# Altium schematic symbol library Sheye-Resistor.SchLib: 584 symbols (part 1 of 3)
Pins are listed as number, name and electrical type; pins without a type are passive.

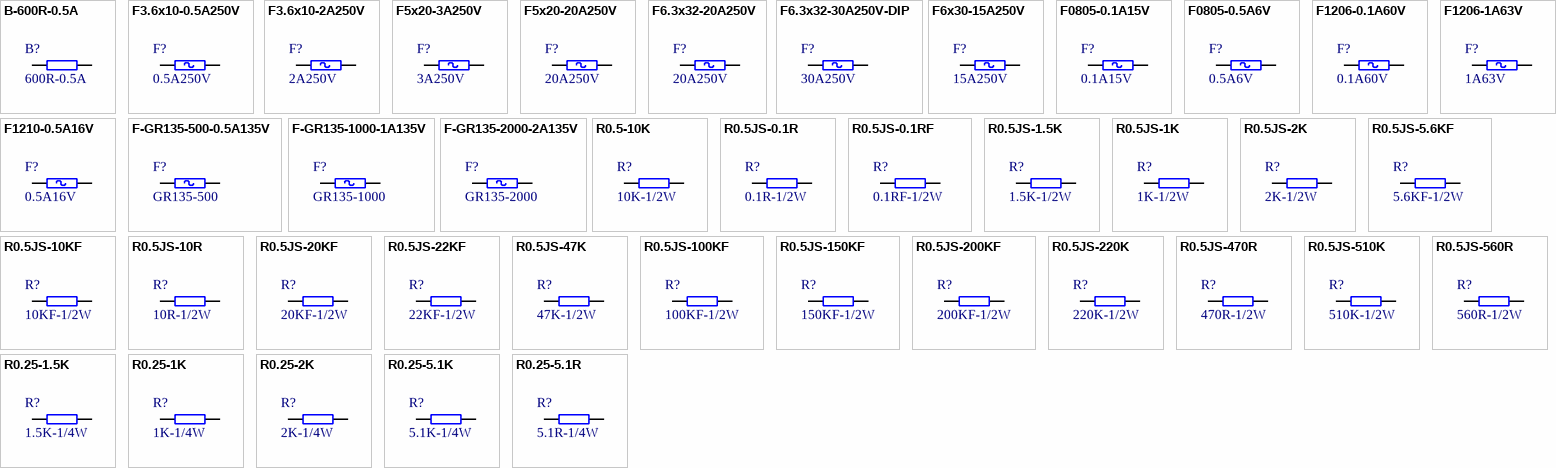
[diagram p0: symbols B-600R-0.5A to R0.25-5.1R]

## B-600R-0.5A
designator B?, comment 600R-0.5A
贴片磁珠; 生产商: TDK; 规格型号: MMZ2012Y601A_600R@100MHz 25%_DC0.2R; 备注: *; 供应商: *; 货品编码: *
footprint B0805 (chip bead)
footprint B0805
pins: 1, 2

## F3.6x10-0.5A250V
designator F?, comment 0.5A250V
插件保险丝; 规格型号: F3.6x10-0.5A250V; 货品编码: 381008; 备注: *; 供应商: *
footprint F-3.6x10-V (Footprint not found)
footprint F-3.6x10-H (Footprint not found)
pins: 1, 2

## F3.6x10-2A250V
designator F?, comment 2A250V
插件保险丝; 规格型号: F3.6x10-2A250V; 货品编码: 381004; 备注: *; 供应商: *
footprint F-3.6x10-V (Footprint not found)
footprint F-3.6x10-H (Footprint not found)
pins: 1, 2

## F5x20-3A250V
designator F?, comment 3A250V
插件保险丝; 规格型号: F5x20-3A250V; 货品编码: 381007; 备注: *; 供应商: *
footprint F-5x20-V (Footprint not found)
footprint F-5x20-H (Footprint not found)
pins: 1, 2

## F5x20-20A250V
designator F?, comment 20A250V
插件保险丝; 规格型号: F5x20-20A250V; 货品编码: 无样品无编码; 备注: *; 供应商: *
footprint F-5x20-V (Footprint not found)
footprint F-5x20-H (Footprint not found)
pins: 1, 2

## F6.3x32-20A250V
designator F?, comment 20A250V
插件保险丝; 规格型号: F6.3x32-20A250V; 货品编码: 381019; 备注: *; 供应商: *
footprint F-6.3x32
pins: 1, 2

## F6.3x32-30A250V-DIP
designator F?, comment 30A250V
插件保险丝; 生产商: 安秒; 规格型号: F6.3x32-30A250V陶瓷 快断 带引线; 货品编码: 381010; 备注: *; 供应商: *
footprint F-6.3x32-H
pins: 1, 2

## F6x30-15A250V
designator F?, comment 15A250V
插件保险丝; 规格型号: F6x30-15A250V; 货品编码: 无样品无编码; 备注: *; 供应商: *
footprint F-6x30
pins: 1, 2

## F0805-0.1A15V
designator F?, comment 0.1A15V
贴片保险丝; 规格型号: F0805-0.1A15V; 货品编码: 381002; 备注: *; 供应商: *
footprint F0805 (Footprint not found)
pins: 1, 2

## F0805-0.5A6V
designator F?, comment 0.5A6V
贴片保险丝; 规格型号: F0805-0.5A6V; 货品编码: 381003; 备注: *; 供应商: *
footprint F0805 (Footprint not found)
pins: 1, 2

## F1206-0.1A60V
designator F?, comment 0.1A60V
贴片保险丝; 规格型号: F1206-0.1A60V 贴片式自恢复保险; 货品编码: 381014; 备注: *; 供应商: *
footprint F1206
pins: 1, 2

## F1206-1A63V
designator F?, comment 1A63V
贴片保险丝; 规格型号: F1206-1A63V; 货品编码: 381001; 备注: *; 供应商: *
footprint F1206
pins: 1, 2

## F1210-0.5A16V
designator F?, comment 0.5A16V
贴片保险丝; 生产商: 硕凯电子(型号SCF050-1210); 规格型号: F1210-0.5A16V; 备注: 贴片自恢复保险丝; 货品编码: 无样品无编码; 供应商: *
footprint F1210 (贴片自恢复保险)
pins: 1, 2

## F-GR135-500-0.5A135V
designator F?, comment GR135-500
插件保险丝; 规格型号: GR135-500-0.5A135V; 货品编码: 381021; 备注: *; 供应商: *
footprint F-GR135-500 (Footprint not found)
footprint F-3.6x10-H (Footprint not found)
pins: 1, 2

## F-GR135-1000-1A135V
designator F?, comment GR135-1000
插件保险丝; 规格型号: GR135-1000-1A135V 自恢复保险丝; 货品编码: 381081; 备注: *; 供应商: *
footprint F-GR135-1000 (Footprint not found)
footprint F-3.6x10-H (Footprint not found)
pins: 1, 2

## F-GR135-2000-2A135V
designator F?, comment GR135-2000
插件保险丝; 规格型号: GR135-2000-2A135V; 货品编码: 381020; 备注: *; 供应商: *
footprint F-GR135-2000 (Footprint not found)
footprint F-3.6x10-H (Footprint not found)
pins: 1, 2

## R0.5-10K
designator R?, comment 10K-1/2W
插件电阻-碳膜; 生产商: 厚声 国巨; 规格型号: 10K±5%_1/2W_±100ppm_AXIAL0.5; 货品编码: 无样品无编码; 备注: *; 供应商: *
footprint R-AXIAL0.5 (Footprint not found)
footprint R-AXIAL0.5V1 (Footprint not found)
pins: 1, 2

## R0.5JS-0.1R
designator R?, comment 0.1R-1/2W
插件电阻-金膜; 生产商: 厚声 国巨; 规格型号: 0.1R±5%_1/2W_±100ppm_AXIAL0.5; 货品编码: 312111; 备注: *; 供应商: *
footprint R-AXIAL0.5 (Footprint not found)
footprint R-AXIAL0.5V1 (Footprint not found)
pins: 1, 2

## R0.5JS-0.1RF
designator R?, comment 0.1RF-1/2W
插件电阻-金膜; 生产商: 厚声 国巨; 规格型号: 0.1R±1%_1/2W_±100ppm_AXIAL0.5; 货品编码: 312144; 备注: *; 供应商: *
footprint R-AXIAL0.5 (Footprint not found)
footprint R-AXIAL0.5V1 (Footprint not found)
pins: 1, 2

## R0.5JS-1.5K
designator R?, comment 1.5K-1/2W
插件电阻-金膜; 生产商: 厚声 国巨; 规格型号: 1.5K±5%_1/2W_±100ppm_AXIAL0.5; 货品编码: 312031; 备注: *; 供应商: *
footprint R-AXIAL0.5 (Footprint not found)
footprint R-AXIAL0.5V1 (Footprint not found)
pins: 1, 2

## R0.5JS-1K
designator R?, comment 1K-1/2W
插件电阻-金膜; 生产商: 厚声 国巨; 规格型号: 1K±5%_1/2W_±100ppm_AXIAL0.5; 货品编码: 312030; 备注: *; 供应商: *
footprint R-AXIAL0.5 (Footprint not found)
footprint R-AXIAL0.5V1 (Footprint not found)
pins: 1, 2

## R0.5JS-2K
designator R?, comment 2K-1/2W
插件电阻-金膜; 生产商: 厚声 国巨; 规格型号: 2K±5%_1/2W_±100ppm_AXIAL0.5; 货品编码: 312032; 备注: *; 供应商: *
footprint R-AXIAL0.5 (Footprint not found)
footprint R-AXIAL0.5V1 (Footprint not found)
pins: 1, 2

## R0.5JS-5.6KF
designator R?, comment 5.6KF-1/2W
插件电阻-金膜; 生产商: 厚声 国巨; 规格型号: 5.6K±1%_1/2W_±100ppm_AXIAL0.5; 货品编码: 312056; 备注: *; 供应商: *
footprint R-AXIAL0.5 (Footprint not found)
footprint R-AXIAL0.5V1 (Footprint not found)
pins: 1, 2

## R0.5JS-10KF
designator R?, comment 10KF-1/2W
插件电阻-金膜; 生产商: 厚声 国巨; 规格型号: 10K±1%_1/2W_±100ppm_AXIAL0.5; 货品编码: 312112; 备注: *; 供应商: *
footprint R-AXIAL0.5 (Footprint not found)
footprint R-AXIAL0.5V1 (Footprint not found)
pins: 1, 2

## R0.5JS-10R
designator R?, comment 10R-1/2W
插件电阻-金膜; 生产商: 厚声 国巨; 规格型号: 10R±5%_1/2W_±100ppm_AXIAL0.5; 货品编码: 312040; 备注: *; 供应商: *
footprint R-AXIAL0.5 (Footprint not found)
footprint R-AXIAL0.5V1 (Footprint not found)
pins: 1, 2

## R0.5JS-20KF
designator R?, comment 20KF-1/2W
插件电阻-金膜; 生产商: 厚声 国巨; 规格型号: 20K±1%_1/2W_±100ppm_AXIAL0.5; 货品编码: 312037; 备注: *; 供应商: *
footprint R-AXIAL0.5 (Footprint not found)
footprint R-AXIAL0.5V1 (Footprint not found)
pins: 1, 2

## R0.5JS-22KF
designator R?, comment 22KF-1/2W
插件电阻-金膜; 生产商: 厚声 国巨; 规格型号: 22K±1%_1/2W_±100ppm_AXIAL0.5; 货品编码: 312062; 备注: *; 供应商: *
footprint R-AXIAL0.5 (Footprint not found)
footprint R-AXIAL0.5V1 (Footprint not found)
pins: 1, 2

## R0.5JS-47K
designator R?, comment 47K-1/2W
插件电阻-金膜; 生产商: 厚声 国巨; 规格型号: 47K±5%_1/2W_±100ppm_AXIAL0.5; 货品编码: 312122; 备注: *; 供应商: *
footprint R-AXIAL0.5 (Footprint not found)
footprint R-AXIAL0.5V1 (Footprint not found)
pins: 1, 2

## R0.5JS-100KF
designator R?, comment 100KF-1/2W
插件电阻-金膜; 生产商: 厚声 国巨; 规格型号: 100K±1%_1/2W_±100ppm_AXIAL0.5; 货品编码: 312113; 备注: *; 供应商: *
footprint R-AXIAL0.5 (Footprint not found)
footprint R-AXIAL0.5V1 (Footprint not found)
pins: 1, 2

## R0.5JS-150KF
designator R?, comment 150KF-1/2W
插件电阻-金膜; 生产商: 厚声 国巨; 规格型号: 150K±1%_1/2W_±100ppm_AXIAL0.5; 货品编码: 312114; 备注: *; 供应商: *
footprint R-AXIAL0.5 (Footprint not found)
footprint R-AXIAL0.5V1 (Footprint not found)
pins: 1, 2

## R0.5JS-200KF
designator R?, comment 200KF-1/2W
插件电阻-金膜; 生产商: 厚声 国巨; 规格型号: 200K±1%_1/2W_±100ppm_AXIAL0.5; 货品编码: 312115; 备注: *; 供应商: *
footprint R-AXIAL0.5 (Footprint not found)
footprint R-AXIAL0.5V1 (Footprint not found)
pins: 1, 2

## R0.5JS-220K
designator R?, comment 220K-1/2W
插件电阻-金膜; 生产商: 厚声 国巨; 规格型号: 220K±5%_1/2W_±100ppm_AXIAL0.5; 货品编码: 312035; 备注: *; 供应商: *
footprint R-AXIAL0.5 (Footprint not found)
footprint R-AXIAL0.5V1 (Footprint not found)
pins: 1, 2

## R0.5JS-470R
designator R?, comment 470R-1/2W
插件电阻-金膜; 生产商: 厚声 国巨; 规格型号: 470R±5%_1/2W_±100ppm_AXIAL0.5; 货品编码: 312041; 备注: *; 供应商: *
footprint R-AXIAL0.5 (Footprint not found)
footprint R-AXIAL0.5V1 (Footprint not found)
pins: 1, 2

## R0.5JS-510K
designator R?, comment 510K-1/2W
插件电阻-金膜; 生产商: 厚声 国巨; 规格型号: 510K±5%_1/2W_±100ppm_AXIAL0.5; 货品编码: 312038; 备注: *; 供应商: *
footprint R-AXIAL0.5 (Footprint not found)
footprint R-AXIAL0.5V1 (Footprint not found)
pins: 1, 2

## R0.5JS-560R
designator R?, comment 560R-1/2W
插件电阻-金膜; 生产商: 厚声 国巨; 规格型号: 560R±5%_1/2W_±100ppm_AXIAL0.5; 货品编码: 312042; 备注: *; 供应商: *
footprint R-AXIAL0.5 (Footprint not found)
footprint R-AXIAL0.5V1 (Footprint not found)
pins: 1, 2

## R0.25-1.5K
designator R?, comment 1.5K-1/4W
插件电阻-碳膜; 生产商: 厚声 国巨; 规格型号: 1.5K±5%_1/4W_±100ppm_AXIAL0.4; 货品编码: 312015; 备注: *; 供应商: *
footprint R-AXIAL0.4 (Footprint not found)
footprint R-AXIAL0.4V1 (Footprint not found)
pins: 1, 2

## R0.25-1K
designator R?, comment 1K-1/4W
插件电阻-碳膜; 生产商: 厚声 国巨; 规格型号: 1K±5%_1/4W_±100ppm_AXIAL0.4; 货品编码: 312014; 备注: *; 供应商: *
footprint R-AXIAL0.4 (Footprint not found)
footprint R-AXIAL0.4V1 (Footprint not found)
pins: 1, 2

## R0.25-2K
designator R?, comment 2K-1/4W
插件电阻-碳膜; 生产商: 厚声 国巨; 规格型号: 2K±5%_1/4W_±100ppm_AXIAL0.4; 货品编码: 312153; 备注: *; 供应商: *
footprint R-AXIAL0.4 (Footprint not found)
footprint R-AXIAL0.4V1 (Footprint not found)
pins: 1, 2

## R0.25-5.1K
designator R?, comment 5.1K-1/4W
插件电阻-碳膜; 生产商: 厚声 国巨; 规格型号: 5.1K±5%_1/4W_±100ppm_AXIAL0.4; 货品编码: 312018; 备注: *; 供应商: *
footprint R-AXIAL0.4 (Footprint not found)
footprint R-AXIAL0.4V1 (Footprint not found)
pins: 1, 2

## R0.25-5.1R
designator R?, comment 5.1R-1/4W
插件电阻-碳膜; 生产商: 厚声 国巨; 规格型号: 5.1R±5%_1/4W_±100ppm_AXIAL0.4; 货品编码: 312150; 备注: *; 供应商: *
footprint R-AXIAL0.4 (Footprint not found)
footprint R-AXIAL0.4V1 (Footprint not found)
pins: 1, 2

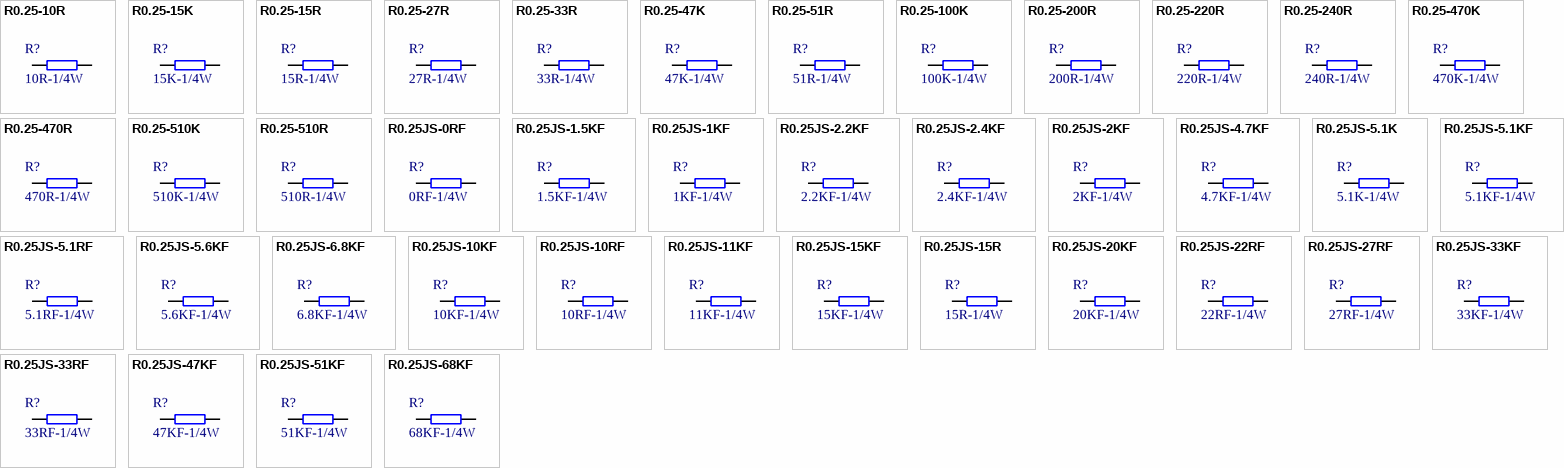
[diagram p1: symbols R0.25-10R to R0.25JS-68KF]

## R0.25-10R
designator R?, comment 10R-1/4W
插件电阻-碳膜; 生产商: 厚声 国巨; 规格型号: 10R±5%_1/4W_±100ppm_AXIAL0.4; 货品编码: 312007; 备注: *; 供应商: *
footprint R-AXIAL0.4 (Footprint not found)
footprint R-AXIAL0.4V1 (Footprint not found)
pins: 1, 2

## R0.25-15K
designator R?, comment 15K-1/4W
插件电阻-碳膜; 生产商: 厚声 国巨; 规格型号: 15K±5%_1/4W_±100ppm_AXIAL0.4; 货品编码: 312021; 备注: *; 供应商: *
footprint R-AXIAL0.4 (Footprint not found)
footprint R-AXIAL0.4V1 (Footprint not found)
pins: 1, 2

## R0.25-15R
designator R?, comment 15R-1/4W
插件电阻-碳膜; 生产商: 厚声 国巨; 规格型号: 15R±5%_1/4W_±100ppm_AXIAL0.4; 货品编码: 312151; 备注: *; 供应商: *
footprint R-AXIAL0.4 (Footprint not found)
footprint R-AXIAL0.4V1 (Footprint not found)
pins: 1, 2

## R0.25-27R
designator R?, comment 27R-1/4W
插件电阻-碳膜; 生产商: 厚声 国巨; 规格型号: 27R±5%_1/4W_±100ppm_AXIAL0.4; 货品编码: 312149; 备注: *; 供应商: *
footprint R-AXIAL0.4 (Footprint not found)
footprint R-AXIAL0.4V1 (Footprint not found)
pins: 1, 2

## R0.25-33R
designator R?, comment 33R-1/4W
插件电阻-碳膜; 生产商: 厚声 国巨; 规格型号: 33R±5%_1/4W_±100ppm_AXIAL0.4; 货品编码: 312107; 备注: *; 供应商: *
footprint R-AXIAL0.4 (Footprint not found)
footprint R-AXIAL0.4V1 (Footprint not found)
pins: 1, 2

## R0.25-47K
designator R?, comment 47K-1/4W
插件电阻-碳膜; 生产商: 厚声 国巨; 规格型号: 47K±5%_1/4W_±100ppm_AXIAL0.4; 货品编码: 312022; 备注: *; 供应商: *
footprint R-AXIAL0.4 (Footprint not found)
footprint R-AXIAL0.4V1 (Footprint not found)
pins: 1, 2

## R0.25-51R
designator R?, comment 51R-1/4W
插件电阻-碳膜; 生产商: 厚声 国巨; 规格型号: 51R±5%_1/4W_±100ppm_AXIAL0.4; 货品编码: 312152; 备注: *; 供应商: *
footprint R-AXIAL0.4 (Footprint not found)
footprint R-AXIAL0.4V1 (Footprint not found)
pins: 1, 2

## R0.25-100K
designator R?, comment 100K-1/4W
插件电阻-碳膜; 生产商: 厚声 国巨; 规格型号: 100K±5%_1/4W_±100ppm_AXIAL0.4; 货品编码: 312025; 备注: *; 供应商: *
footprint R-AXIAL0.4 (Footprint not found)
footprint R-AXIAL0.4V1 (Footprint not found)
pins: 1, 2

## R0.25-200R
designator R?, comment 200R-1/4W
插件电阻-碳膜; 生产商: 厚声 国巨; 规格型号: 200R±5%_1/4W_±100ppm_AXIAL0.4; 货品编码: 312009; 备注: *; 供应商: *
footprint R-AXIAL0.4 (Footprint not found)
footprint R-AXIAL0.4V1 (Footprint not found)
pins: 1, 2

## R0.25-220R
designator R?, comment 220R-1/4W
插件电阻-碳膜; 生产商: 厚声 国巨; 规格型号: 220R±5%_1/4W_±100ppm_AXIAL0.4; 货品编码: 无样品无编码; 备注: *; 供应商: *
footprint R-AXIAL0.4 (Footprint not found)
footprint R-AXIAL0.4V1 (Footprint not found)
pins: 1, 2

## R0.25-240R
designator R?, comment 240R-1/4W
插件电阻-碳膜; 生产商: 厚声 国巨; 规格型号: 240R±5%_1/4W_±100ppm_AXIAL0.4; 货品编码: 312011; 备注: *; 供应商: *
footprint R-AXIAL0.4 (Footprint not found)
footprint R-AXIAL0.4V1 (Footprint not found)
pins: 1, 2

## R0.25-470K
designator R?, comment 470K-1/4W
插件电阻-碳膜; 生产商: 厚声 国巨; 规格型号: 470K±5%_1/4W_±100ppm_AXIAL0.4; 货品编码: 312028; 备注: *; 供应商: *
footprint R-AXIAL0.4 (Footprint not found)
footprint R-AXIAL0.4V1 (Footprint not found)
pins: 1, 2

## R0.25-470R
designator R?, comment 470R-1/4W
插件电阻-碳膜; 生产商: 厚声 国巨; 规格型号: 470R±5%_1/4W_±100ppm_AXIAL0.4; 货品编码: 312012; 备注: *; 供应商: *
footprint R-AXIAL0.4 (Footprint not found)
footprint R-AXIAL0.4V1 (Footprint not found)
pins: 1, 2

## R0.25-510K
designator R?, comment 510K-1/4W
插件电阻-碳膜; 生产商: 厚声 国巨; 规格型号: 510K±5%_1/4W_±100ppm_AXIAL0.4; 货品编码: 312029; 备注: *; 供应商: *
footprint R-AXIAL0.4 (Footprint not found)
footprint R-AXIAL0.4V1 (Footprint not found)
pins: 1, 2

## R0.25-510R
designator R?, comment 510R-1/4W
插件电阻-碳膜; 生产商: 厚声 国巨; 规格型号: 510R±5%_1/4W_±100ppm_AXIAL0.4; 货品编码: 312013; 备注: *; 供应商: *
footprint R-AXIAL0.4 (Footprint not found)
footprint R-AXIAL0.4V1 (Footprint not found)
pins: 1, 2

## R0.25JS-0RF
designator R?, comment 0RF-1/4W
插件电阻-金膜; 生产商: 厚声 国巨; 规格型号: 0R±1%_1/4W_±100ppm_AXIAL0.4; 货品编码: 312006; 备注: *; 供应商: *
footprint R-AXIAL0.4 (Footprint not found)
footprint R-AXIAL0.4V1 (Footprint not found)
pins: 1, 2

## R0.25JS-1.5KF
designator R?, comment 1.5KF-1/4W
插件电阻-金膜; 生产商: 厚声 国巨; 规格型号: 1.5K±1%_1/4W_±100ppm_AXIAL0.4; 货品编码: 312034; 备注: *; 供应商: *
footprint R-AXIAL0.4 (Footprint not found)
footprint R-AXIAL0.4V1 (Footprint not found)
pins: 1, 2

## R0.25JS-1KF
designator R?, comment 1KF-1/4W
插件电阻-金膜; 生产商: 厚声 国巨; 规格型号: 1K±1%_1/4W_±100ppm_AXIAL0.4; 货品编码: 312103; 备注: *; 供应商: *
footprint R-AXIAL0.4 (Footprint not found)
footprint R-AXIAL0.4V1 (Footprint not found)
pins: 1, 2

## R0.25JS-2.2KF
designator R?, comment 2.2KF-1/4W
插件电阻-金膜; 生产商: 厚声 国巨; 规格型号: 2.2K±1%_1/4W_±100ppm_AXIAL0.4; 货品编码: 312171; 备注: *; 供应商: *
footprint R-AXIAL0.4 (Footprint not found)
footprint R-AXIAL0.4V1 (Footprint not found)
pins: 1, 2

## R0.25JS-2.4KF
designator R?, comment 2.4KF-1/4W
插件电阻-金膜; 生产商: 厚声 国巨; 规格型号: 2.4K±1%_1/4W_±100ppm_AXIAL0.4; 货品编码: 312087; 备注: *; 供应商: *
footprint R-AXIAL0.4 (Footprint not found)
footprint R-AXIAL0.4V1 (Footprint not found)
pins: 1, 2

## R0.25JS-2KF
designator R?, comment 2KF-1/4W
插件电阻-金膜; 生产商: 厚声 国巨; 规格型号: 2K±1%_1/4W_±100ppm_AXIAL0.4; 货品编码: 312017; 备注: *; 供应商: *
footprint R-AXIAL0.4 (Footprint not found)
footprint R-AXIAL0.4V1 (Footprint not found)
pins: 1, 2

## R0.25JS-4.7KF
designator R?, comment 4.7KF-1/4W
插件电阻-金膜; 生产商: 厚声 国巨; 规格型号: 4.7K±1%_1/4W_±100ppm_AXIAL0.4; 货品编码: 312172; 备注: *; 供应商: *
footprint R-AXIAL0.4 (Footprint not found)
footprint R-AXIAL0.4V1 (Footprint not found)
pins: 1, 2

## R0.25JS-5.1K
designator R?, comment 5.1K-1/4W
插件电阻-金膜; 生产商: 厚声 国巨; 规格型号: 5.1K±5%_1/4W_±100ppm_AXIAL0.4; 货品编码: 无样品无编码; 备注: *; 供应商: *
footprint R-AXIAL0.4 (Footprint not found)
footprint R-AXIAL0.4V1 (Footprint not found)
pins: 1, 2

## R0.25JS-5.1KF
designator R?, comment 5.1KF-1/4W
插件电阻-金膜; 生产商: 厚声 国巨; 规格型号: 5.1K±1%_1/4W_±100ppm_AXIAL0.4; 货品编码: 312143; 备注: *; 供应商: *
footprint R-AXIAL0.4 (Footprint not found)
footprint R-AXIAL0.4V1 (Footprint not found)
pins: 1, 2

## R0.25JS-5.1RF
designator R?, comment 5.1RF-1/4W
插件电阻-金膜; 生产商: 厚声 国巨; 规格型号: 5.1R±1%_1/4W_±100ppm_AXIAL0.4; 货品编码: 312160; 备注: *; 供应商: *
footprint R-AXIAL0.4 (Footprint not found)
footprint R-AXIAL0.4V1 (Footprint not found)
pins: 1, 2

## R0.25JS-5.6KF
designator R?, comment 5.6KF-1/4W
插件电阻-金膜; 生产商: 厚声 国巨; 规格型号: 5.6K±1%_1/4W_±100ppm_AXIAL0.4; 货品编码: 312019; 备注: *; 供应商: *
footprint R-AXIAL0.4 (Footprint not found)
footprint R-AXIAL0.4V1 (Footprint not found)
pins: 1, 2

## R0.25JS-6.8KF
designator R?, comment 6.8KF-1/4W
插件电阻-金膜; 生产商: 厚声 国巨; 规格型号: 6.8K±1%_1/4W_±100ppm_AXIAL0.4; 货品编码: 312020; 备注: *; 供应商: *
footprint R-AXIAL0.4 (Footprint not found)
footprint R-AXIAL0.4V1 (Footprint not found)
pins: 1, 2

## R0.25JS-10KF
designator R?, comment 10KF-1/4W
插件电阻-金膜; 生产商: 厚声 国巨; 规格型号: 10K±1%_1/4W_±100ppm_AXIAL0.4; 货品编码: 312024; 备注: *; 供应商: *
footprint R-AXIAL0.4 (Footprint not found)
footprint R-AXIAL0.4V1 (Footprint not found)
pins: 1, 2

## R0.25JS-10RF
designator R?, comment 10RF-1/4W
插件电阻-金膜; 生产商: 厚声 国巨; 规格型号: 10R±1%_1/4W_±100ppm_AXIAL0.4; 货品编码: 312154; 备注: *; 供应商: *
footprint R-AXIAL0.4 (Footprint not found)
footprint R-AXIAL0.4V1 (Footprint not found)
pins: 1, 2

## R0.25JS-11KF
designator R?, comment 11KF-1/4W
插件电阻-金膜; 生产商: 厚声 国巨; 规格型号: 11K±1%_1/4W_±100ppm_AXIAL0.4; 货品编码: 312156; 备注: *; 供应商: *
footprint R-AXIAL0.4 (Footprint not found)
footprint R-AXIAL0.4V1 (Footprint not found)
pins: 1, 2

## R0.25JS-15KF
designator R?, comment 15KF-1/4W
插件电阻-金膜; 生产商: 厚声 国巨; 规格型号: 15K±1%_1/4W_±100ppm_AXIAL0.4; 货品编码: 312106; 备注: *; 供应商: *
footprint R-AXIAL0.4 (Footprint not found)
footprint R-AXIAL0.4V1 (Footprint not found)
pins: 1, 2

## R0.25JS-15R
designator R?, comment 15R-1/4W
插件电阻-金膜; 生产商: 厚声 国巨; 规格型号: 15R±5%_1/4W_±100ppm_AXIAL0.4; 货品编码: 312098; 备注: *; 供应商: *
footprint R-AXIAL0.4 (Footprint not found)
footprint R-AXIAL0.4V1 (Footprint not found)
pins: 1, 2

## R0.25JS-20KF
designator R?, comment 20KF-1/4W
插件电阻-金膜; 生产商: 厚声 国巨; 规格型号: 20K±1%_1/4W_±100ppm_AXIAL0.4; 货品编码: 312002; 备注: *; 供应商: *
footprint R-AXIAL0.4 (Footprint not found)
footprint R-AXIAL0.4V1 (Footprint not found)
pins: 1, 2

## R0.25JS-22RF
designator R?, comment 22RF-1/4W
插件电阻-金膜; 生产商: 厚声 国巨; 规格型号: 22R±1%_1/4W_±100ppm_AXIAL0.4; 货品编码: 312173; 备注: *; 供应商: *
footprint R-AXIAL0.4 (Footprint not found)
footprint R-AXIAL0.4V1 (Footprint not found)
pins: 1, 2

## R0.25JS-27RF
designator R?, comment 27RF-1/4W
插件电阻-金膜; 生产商: 厚声 国巨; 规格型号: 27R±1%_1/4W_±100ppm_AXIAL0.4; 货品编码: 312008; 备注: *; 供应商: *
footprint R-AXIAL0.4 (Footprint not found)
footprint R-AXIAL0.4V1 (Footprint not found)
pins: 1, 2

## R0.25JS-33KF
designator R?, comment 33KF-1/4W
插件电阻-金膜; 生产商: 厚声 国巨; 规格型号: 33K±1%_1/4W_±100ppm_AXIAL0.4; 货品编码: 312084; 备注: *; 供应商: *
footprint R-AXIAL0.4 (Footprint not found)
footprint R-AXIAL0.4V1 (Footprint not found)
pins: 1, 2

## R0.25JS-33RF
designator R?, comment 33RF-1/4W
插件电阻-金膜; 生产商: 厚声 国巨; 规格型号: 33R±1%_1/4W_±100ppm_AXIAL0.4; 货品编码: 312161; 备注: *; 供应商: *
footprint R-AXIAL0.4 (Footprint not found)
footprint R-AXIAL0.4V1 (Footprint not found)
pins: 1, 2

## R0.25JS-47KF
designator R?, comment 47KF-1/4W
插件电阻-金膜; 生产商: 厚声 国巨; 规格型号: 47K±1%_1/4W_±100ppm_AXIAL0.4; 货品编码: 312023; 备注: *; 供应商: *
footprint R-AXIAL0.4 (Footprint not found)
footprint R-AXIAL0.4V1 (Footprint not found)
pins: 1, 2

## R0.25JS-51KF
designator R?, comment 51KF-1/4W
插件电阻-金膜; 生产商: 厚声 国巨; 规格型号: 51K±1%_1/4W_±100ppm_AXIAL0.4; 货品编码: 312004; 备注: *; 供应商: *
footprint R-AXIAL0.4 (Footprint not found)
footprint R-AXIAL0.4V1 (Footprint not found)
pins: 1, 2

## R0.25JS-68KF
designator R?, comment 68KF-1/4W
插件电阻-金膜; 生产商: 厚声 国巨; 规格型号: 68K±1%_1/4W_±100ppm_AXIAL0.4; 货品编码: 312003; 备注: *; 供应商: *
footprint R-AXIAL0.4 (Footprint not found)
footprint R-AXIAL0.4V1 (Footprint not found)
pins: 1, 2

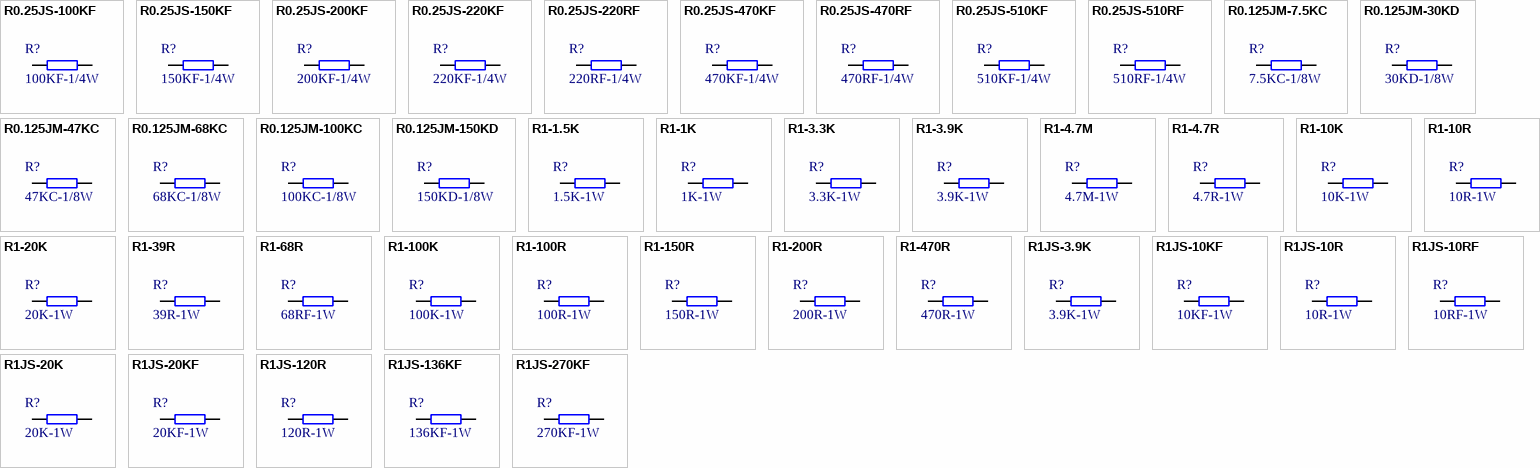
[diagram p2: symbols R0.25JS-100KF to R1JS-270KF]

## R0.25JS-100KF
designator R?, comment 100KF-1/4W
插件电阻-金膜; 生产商: 厚声 国巨; 规格型号: 100K±1%_1/4W_±100ppm_AXIAL0.4; 货品编码: 312016; 备注: *; 供应商: *
footprint R-AXIAL0.4 (Footprint not found)
footprint R-AXIAL0.4V1 (Footprint not found)
pins: 1, 2

## R0.25JS-150KF
designator R?, comment 150KF-1/4W
插件电阻-金膜; 生产商: 厚声 国巨; 规格型号: 150K±1%_1/4W_±100ppm_AXIAL0.4; 货品编码: 312026; 备注: *; 供应商: *
footprint R-AXIAL0.4 (Footprint not found)
footprint R-AXIAL0.4V1 (Footprint not found)
pins: 1, 2

## R0.25JS-200KF
designator R?, comment 200KF-1/4W
插件电阻-金膜; 生产商: 厚声 国巨; 规格型号: 200K±1%_1/4W_±100ppm_AXIAL0.4; 货品编码: 312039; 备注: *; 供应商: *
footprint R-AXIAL0.4 (Footprint not found)
footprint R-AXIAL0.4V1 (Footprint not found)
pins: 1, 2

## R0.25JS-220KF
designator R?, comment 220KF-1/4W
插件电阻-金膜; 生产商: 厚声 国巨; 规格型号: 220K±1%_1/4W_±100ppm_AXIAL0.4; 货品编码: 312027; 备注: *; 供应商: *
footprint R-AXIAL0.4 (Footprint not found)
footprint R-AXIAL0.4V1 (Footprint not found)
pins: 1, 2

## R0.25JS-220RF
designator R?, comment 220RF-1/4W
插件电阻-金膜; 生产商: 厚声 国巨; 规格型号: 220R±1%_1/4W_±100ppm_AXIAL0.4; 货品编码: 312010; 备注: *; 供应商: *
footprint R-AXIAL0.4 (Footprint not found)
footprint R-AXIAL0.4V1 (Footprint not found)
pins: 1, 2

## R0.25JS-470KF
designator R?, comment 470KF-1/4W
插件电阻-金膜; 生产商: 厚声 国巨; 规格型号: 470K±1%_1/4W_±100ppm_AXIAL0.4; 货品编码: 312157; 备注: *; 供应商: *
footprint R-AXIAL0.4 (Footprint not found)
footprint R-AXIAL0.4V1 (Footprint not found)
pins: 1, 2

## R0.25JS-470RF
designator R?, comment 470RF-1/4W
插件电阻-金膜; 生产商: 厚声 国巨; 规格型号: 470R±1%_1/4W_±100ppm_AXIAL0.4; 货品编码: 312155; 备注: *; 供应商: *
footprint R-AXIAL0.4 (Footprint not found)
footprint R-AXIAL0.4V1 (Footprint not found)
pins: 1, 2

## R0.25JS-510KF
designator R?, comment 510KF-1/4W
插件电阻-金膜; 生产商: 厚声 国巨; 规格型号: 510K±1%_1/4W_±100ppm_AXIAL0.4; 货品编码: 312158; 备注: *; 供应商: *
footprint R-AXIAL0.4 (Footprint not found)
footprint R-AXIAL0.4V1 (Footprint not found)
pins: 1, 2

## R0.25JS-510RF
designator R?, comment 510RF-1/4W
插件电阻-金膜; 生产商: 厚声 国巨; 规格型号: 510R±1%_1/4W_±100ppm_AXIAL0.4; 货品编码: 无样品无编码; 备注: *; 供应商: *
footprint R-AXIAL0.4 (Footprint not found)
footprint R-AXIAL0.4V1 (Footprint not found)
pins: 1, 2

## R0.125JM-7.5KC
designator R?, comment 7.5KC-1/8W
插件电阻-精密; 生产商: 厚声 国巨; 规格型号: 7.5K±0.25%_1/8W_±25ppm_AXIAL0.7; 货品编码: 311095; 备注: *; 供应商: *
footprint R-AXIAL0.7
footprint R-AXIAL0.7V1 (Footprint not found)
pins: 1, 2

## R0.125JM-30KD
designator R?, comment 30KD-1/8W
插件电阻-精密; 生产商: 厚声 国巨; 规格型号: 30K±0.5%_1/8W_±25ppm_AXIAL0.7; 货品编码: 311096; 备注: *; 供应商: *
footprint R-AXIAL0.7
footprint R-AXIAL0.7V1 (Footprint not found)
pins: 1, 2

## R0.125JM-47KC
designator R?, comment 47KC-1/8W
插件电阻-精密; 生产商: 厚声 国巨; 规格型号: 47K±0.25%_1/8W_±50ppm_AXIAL0.7; 货品编码: 311097; 备注: *; 供应商: *
footprint R-AXIAL0.7
footprint R-AXIAL0.7V1 (Footprint not found)
pins: 1, 2

## R0.125JM-68KC
designator R?, comment 68KC-1/8W
插件电阻-精密; 生产商: 厚声 国巨; 规格型号: 68K±0.25%_1/8W_±50ppm_AXIAL0.7; 货品编码: 311098; 备注: *; 供应商: *
footprint R-AXIAL0.7
footprint R-AXIAL0.7V1 (Footprint not found)
pins: 1, 2

## R0.125JM-100KC
designator R?, comment 100KC-1/8W
插件电阻-精密; 生产商: 厚声 国巨; 规格型号: 100K±0.25%_1/8W_±50ppm_AXIAL0.7; 货品编码: 311099; 备注: *; 供应商: *
footprint R-AXIAL0.7
footprint R-AXIAL0.7V1 (Footprint not found)
pins: 1, 2

## R0.125JM-150KD
designator R?, comment 150KD-1/8W
插件电阻-精密; 生产商: 厚声 国巨; 规格型号: 150K±0.5%_1/8W_±50ppm_AXIAL0.7; 货品编码: 311100; 备注: *; 供应商: *
footprint R-AXIAL0.7
footprint R-AXIAL0.7V1 (Footprint not found)
pins: 1, 2

## R1-1.5K
designator R?, comment 1.5K-1W
插件电阻-碳膜; 生产商: 厚声 国巨; 规格型号: 1.5K±5%_1W_±100ppm_AXIAL0.6; 货品编码: 312146; 备注: *; 供应商: *
footprint R-AXIAL0.6 (Footprint not found)
footprint R-AXIAL0.6V1 (Footprint not found)
pins: 1, 2

## R1-1K
designator R?, comment 1K-1W
插件电阻-碳膜; 生产商: 厚声 国巨; 规格型号: 1K±5%_1W_±100ppm_AXIAL0.6; 货品编码: 312050; 备注: *; 供应商: *
footprint R-AXIAL0.6 (Footprint not found)
footprint R-AXIAL0.6V1 (Footprint not found)
pins: 1, 2

## R1-3.3K
designator R?, comment 3.3K-1W
插件电阻-碳膜; 生产商: 厚声 国巨; 规格型号: 3.3K±5%_1W_±100ppm_AXIAL0.6; 货品编码: 312048; 备注: *; 供应商: *
footprint R-AXIAL0.6 (Footprint not found)
footprint R-AXIAL0.6V1 (Footprint not found)
pins: 1, 2

## R1-3.9K
designator R?, comment 3.9K-1W
插件电阻-碳膜; 生产商: 厚声 国巨; 规格型号: 3.9K±5%_1W_±100ppm_AXIAL0.6; 货品编码: 312147; 备注: *; 供应商: *
footprint R-AXIAL0.6 (Footprint not found)
footprint R-AXIAL0.6V1 (Footprint not found)
pins: 1, 2

## R1-4.7M
designator R?, comment 4.7M-1W
插件电阻-碳膜; 生产商: 厚声 国巨; 规格型号: 4.7M±5%_1W_±100ppm_AXIAL0.6; 货品编码: 312148; 备注: *; 供应商: *
footprint R-AXIAL0.6 (Footprint not found)
footprint R-AXIAL0.6V1 (Footprint not found)
pins: 1, 2

## R1-4.7R
designator R?, comment 4.7R-1W
插件电阻-碳膜; 生产商: 厚声 国巨; 规格型号: 4.7R±5%_1W_±100ppm_AXIAL0.6; 货品编码: 312044; 备注: *; 供应商: *
footprint R-AXIAL0.6 (Footprint not found)
footprint R-AXIAL0.6V1 (Footprint not found)
pins: 1, 2

## R1-10K
designator R?, comment 10K-1W
插件电阻-碳膜; 生产商: 厚声 国巨; 规格型号: 10K±5%_1W_±100ppm_AXIAL0.6; 货品编码: 无样品无编码; 备注: *; 供应商: *
footprint R-AXIAL0.6 (Footprint not found)
footprint R-AXIAL0.6V1 (Footprint not found)
pins: 1, 2

## R1-10R
designator R?, comment 10R-1W
插件电阻-碳膜; 生产商: 厚声 国巨; 规格型号: 10R±5%_1W_±100ppm_AXIAL0.6; 货品编码: 312045; 备注: *; 供应商: *
footprint R-AXIAL0.6 (Footprint not found)
footprint R-AXIAL0.6V1 (Footprint not found)
pins: 1, 2

## R1-20K
designator R?, comment 20K-1W
插件电阻-碳膜; 生产商: 厚声 国巨; 规格型号: 20K±5%_1W_±100ppm_AXIAL0.6; 货品编码: 312043; 备注: *; 供应商: *
footprint R-AXIAL0.6 (Footprint not found)
footprint R-AXIAL0.6V1 (Footprint not found)
pins: 1, 2

## R1-39R
designator R?, comment 39R-1W
插件电阻-碳膜; 生厂商: 厚声 国巨; 规格型号: 39R±5%_1W_±100ppm_AXIAL0.6; 货品编码: 无样品无编码; 备注: *; 供应商: *
footprint R-AXIAL0.6 (Footprint not found)
footprint R-AXIAL0.6V1 (Footprint not found)
pins: 1, 2

## R1-68R
designator R?, comment 68RF-1W
插件电阻-碳膜; 生产商: 厚声 国巨; 规格型号: 68R±1%_1W_±100ppm_AXIAL0.6; 货品编码: 312088; 备注: *; 供应商: *
footprint R-AXIAL0.6 (Footprint not found)
footprint R-AXIAL0.6V1 (Footprint not found)
pins: 1, 2

## R1-100K
designator R?, comment 100K-1W
插件电阻-碳膜; 生产商: 厚声 国巨; 规格型号: 100K±5%_1W_±100ppm_AXIAL0.6; 货品编码: 312051; 备注: *; 供应商: *
footprint R-AXIAL0.6 (Footprint not found)
footprint R-AXIAL0.6V1 (Footprint not found)
pins: 1, 2

## R1-100R
designator R?, comment 100R-1W
插件电阻-碳膜; 生产商: 厚声 国巨; 规格型号: 100R±5%_1W_±100ppm_AXIAL0.6; 货品编码: 312145; 备注: *; 供应商: *
footprint R-AXIAL0.6 (Footprint not found)
footprint R-AXIAL0.6V1 (Footprint not found)
pins: 1, 2

## R1-150R
designator R?, comment 150R-1W
插件电阻-碳膜; 生产商: 厚声 国巨; 规格型号: 150R±5%_1W_±100ppm_AXIAL0.6; 货品编码: 312162; 备注: *; 供应商: *
footprint R-AXIAL0.6 (Footprint not found)
footprint R-AXIAL0.6V1 (Footprint not found)
pins: 1, 2

## R1-200R
designator R?, comment 200R-1W
插件电阻-碳膜; 生产商: 厚声 国巨; 规格型号: 200R±5%_1W_±100ppm_AXIAL0.6; 货品编码: 312163; 备注: *; 供应商: *
footprint R-AXIAL0.6 (Footprint not found)
footprint R-AXIAL0.6V1 (Footprint not found)
pins: 1, 2

## R1-470R
designator R?, comment 470R-1W
插件电阻-碳膜; 生产商: 厚声 国巨; 规格型号: 470R±5%_1W_±100ppm_AXIAL0.6; 货品编码: 312164; 备注: *; 供应商: *
footprint R-AXIAL0.6 (Footprint not found)
footprint R-AXIAL0.6V1 (Footprint not found)
pins: 1, 2

## R1JS-3.9K
designator R?, comment 3.9K-1W
插件电阻-金膜; 生产商: 厚声 国巨; 规格型号: 3.9K±5%_1W_±100ppm_AXIAL0.6; 货品编码: 无样品无编码; 备注: *; 供应商: *
footprint R-AXIAL0.6 (Footprint not found)
footprint R-AXIAL0.6V1 (Footprint not found)
pins: 1, 2

## R1JS-10KF
designator R?, comment 10KF-1W
插件电阻-金膜; 生产商: 厚声 国巨; 规格型号: 10K±1%_1W_±100ppm_AXIAL0.6; 货品编码: 312049; 备注: *; 供应商: *
footprint R-AXIAL0.6 (Footprint not found)
footprint R-AXIAL0.6V1 (Footprint not found)
pins: 1, 2

## R1JS-10R
designator R?, comment 10R-1W
插件电阻-金膜; 生产商: 厚声 国巨; 规格型号: 10R±5%_1W_±100ppm_AXIAL0.6; 货品编码: 无样品无编码; 备注: *; 供应商: *
footprint R-AXIAL0.6 (Footprint not found)
footprint R-AXIAL0.6V1 (Footprint not found)
pins: 1, 2

## R1JS-10RF
designator R?, comment 10RF-1W
插件电阻-金膜; 生产商: 厚声 国巨; 规格型号: 10R±1%_1W_±100ppm_AXIAL0.6; 货品编码: 312046; 备注: *; 供应商: *
footprint R-AXIAL0.6 (Footprint not found)
footprint R-AXIAL0.6V1 (Footprint not found)
pins: 1, 2

## R1JS-20K
designator R?, comment 20K-1W
插件电阻-金膜; 生产商: 厚声 国巨; 规格型号: 20K±5%_1W_±100ppm_AXIAL0.6; 货品编码: 无样品无编码; 备注: *; 供应商: *
footprint R-AXIAL0.6 (Footprint not found)
footprint R-AXIAL0.6V1 (Footprint not found)
pins: 1, 2

## R1JS-20KF
designator R?, comment 20KF-1W
插件电阻-金膜; 生产商: 厚声 国巨; 规格型号: 20K±1%_1W_±100ppm_AXIAL0.6; 货品编码: 无样品无编码; 备注: *; 供应商: *
footprint R-AXIAL0.6 (Footprint not found)
footprint R-AXIAL0.6V1 (Footprint not found)
pins: 1, 2

## R1JS-120R
designator R?, comment 120R-1W
插件电阻-金膜; 生产商: 厚声 国巨; 规格型号: 120R±5%_1W_±100ppm_AXIAL0.6; 货品编码: 312047; 备注: *; 供应商: *
footprint R-AXIAL0.6 (Footprint not found)
footprint R-AXIAL0.6V1 (Footprint not found)
pins: 1, 2

## R1JS-136KF
designator R?, comment 136KF-1W
插件电阻-金膜; 生产商: 厚声 国巨; 规格型号: 136K±1%_1W_±100ppm_AXIAL0.6; 货品编码: 312102; 备注: *; 供应商: *
footprint R-AXIAL0.6 (Footprint not found)
footprint R-AXIAL0.6V1 (Footprint not found)
pins: 1, 2

## R1JS-270KF
designator R?, comment 270KF-1W
插件电阻-金膜; 生产商: 厚声 国巨; 规格型号: 270K±1%_1W_±100ppm_AXIAL0.6; 货品编码: 312116; 备注: *; 供应商: *
footprint R-AXIAL0.6 (Footprint not found)
footprint R-AXIAL0.6V1 (Footprint not found)
pins: 1, 2

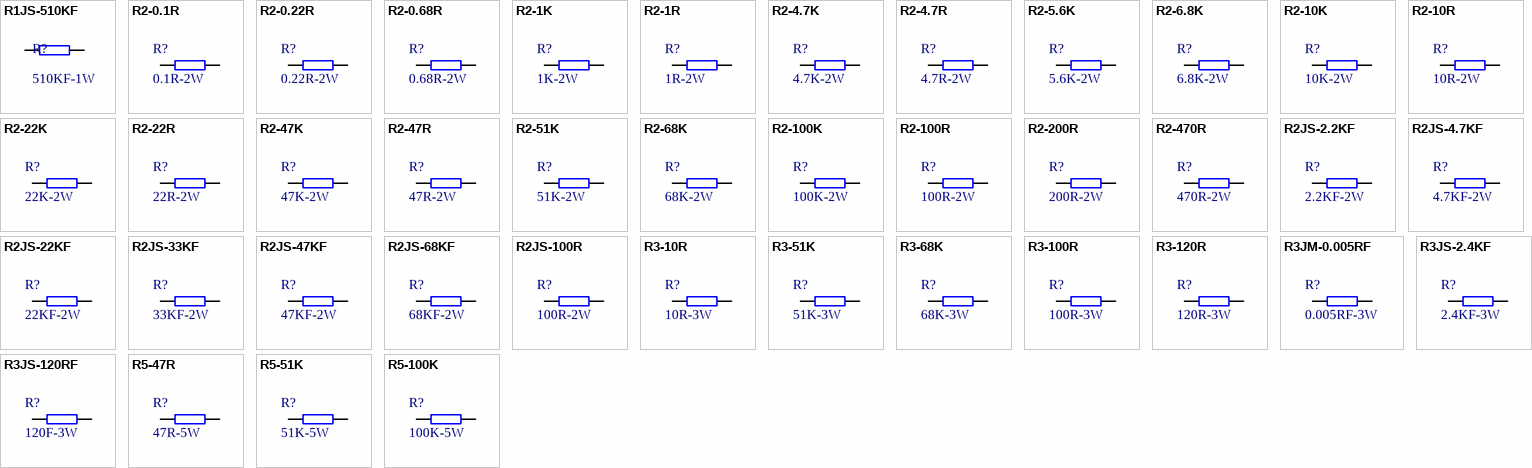
[diagram p3: symbols R1JS-510KF to R5-100K]

## R1JS-510KF
designator R?, comment 510KF-1W
插件电阻-金膜; 货品编码: 312119; 规格型号: *510K±1%_1W_±100ppm_AXIAL0.6; 备注: *; 供应商: *; 生产商: *
footprint R-AXIAL0.6
footprint R-AXIAL0.6V1
pins: 1, 2

## R2-0.1R
designator R?, comment 0.1R-2W
插件电阻-碳膜; 生产商: 厚声 国巨; 规格型号: 0.1R±5%_2W_±100ppm_AXIAL0.8; 货品编码: 312052; 备注: *; 供应商: *
footprint R-AXIAL0.8 (Footprint not found)
footprint R-AXIAL0.8V1 (Footprint not found)
pins: 1, 2

## R2-0.22R
designator R?, comment 0.22R-2W
插件电阻-碳膜; 生产商: 厚声 国巨; 规格型号: 0.22R±5%_2W_±100ppm_AXIAL0.8; 货品编码: 312090; 备注: *; 供应商: *
footprint R-AXIAL0.8 (Footprint not found)
footprint R-AXIAL0.8V1 (Footprint not found)
pins: 1, 2

## R2-0.68R
designator R?, comment 0.68R-2W
插件电阻-碳膜; 生产商: 厚声 国巨; 规格型号: 0.68R±5%_2W_±100ppm_AXIAL0.8; 货品编码: 312053; 备注: *; 供应商: *
footprint R-AXIAL0.8 (Footprint not found)
footprint R-AXIAL0.8V1 (Footprint not found)
pins: 1, 2

## R2-1K
designator R?, comment 1K-2W
插件电阻-碳膜; 生产商: 厚声 国巨; 规格型号: 1K±5%_2W_±100ppm_AXIAL0.8; 货品编码: 312054; 备注: *; 供应商: *
footprint R-AXIAL0.8 (Footprint not found)
footprint R-AXIAL0.8V1 (Footprint not found)
pins: 1, 2

## R2-1R
designator R?, comment 1R-2W
插件电阻-碳膜; 生产商: 厚声 国巨; 规格型号: 1R±5%_2W_±100ppm_AXIAL0.8; 货品编码: 312063; 备注: *; 供应商: *
footprint R-AXIAL0.8 (Footprint not found)
footprint R-AXIAL0.8V1 (Footprint not found)
pins: 1, 2

## R2-4.7K
designator R?, comment 4.7K-2W
插件电阻-碳膜; 生产商: 厚声 国巨; 规格型号: 4.7K±5%_2W_±100ppm_AXIAL0.8; 货品编码: 无样品无编码; 备注: *; 供应商: *
footprint R-AXIAL0.8 (Footprint not found)
footprint R-AXIAL0.8V1 (Footprint not found)
pins: 1, 2

## R2-4.7R
designator R?, comment 4.7R-2W
插件电阻-碳膜; 生产商: 厚声 国巨; 规格型号: 4.7R±5%_2W_±100ppm_AXIAL0.8; 货品编码: 312174; 备注: *; 供应商: *
footprint R-AXIAL0.8 (Footprint not found)
footprint R-AXIAL0.8V1 (Footprint not found)
pins: 1, 2

## R2-5.6K
designator R?, comment 5.6K-2W
插件电阻-碳膜; 生产商: 厚声 国巨; 规格型号: 5.6K±5%_2W_±100ppm_AXIAL0.8; 货品编码: 312057; 备注: *; 供应商: *
footprint R-AXIAL0.8 (Footprint not found)
footprint R-AXIAL0.8V1 (Footprint not found)
pins: 1, 2

## R2-6.8K
designator R?, comment 6.8K-2W
插件电阻-碳膜; 生产商: 厚声 国巨; 规格型号: 6.8K±5%_2W_±100ppm_AXIAL0.8; 货品编码: 312138; 备注: *; 供应商: *
footprint R-AXIAL0.8 (Footprint not found)
footprint R-AXIAL0.8V1 (Footprint not found)
pins: 1, 2

## R2-10K
designator R?, comment 10K-2W
插件电阻-碳膜; 生产商: 厚声 国巨; 规格型号: 10K±5%_2W_±100ppm_AXIAL0.8; 货品编码: 312058; 备注: *; 供应商: *
footprint R-AXIAL0.8 (Footprint not found)
footprint R-AXIAL0.8V1 (Footprint not found)
pins: 1, 2

## R2-10R
designator R?, comment 10R-2W
插件电阻-碳膜; 生产商: 厚声 国巨; 规格型号: 10R±5%_2W_±100ppm_AXIAL0.8; 货品编码: 312064; 备注: *; 供应商: *
footprint R-AXIAL0.8 (Footprint not found)
footprint R-AXIAL0.8V1 (Footprint not found)
pins: 1, 2

## R2-22K
designator R?, comment 22K-2W
插件电阻-碳膜; 生产商: 厚声 国巨; 规格型号: 22K±5%_2W_±100ppm_AXIAL0.8; 货品编码: 312083; 备注: *; 供应商: *
footprint R-AXIAL0.8 (Footprint not found)
footprint R-AXIAL0.8V1 (Footprint not found)
pins: 1, 2

## R2-22R
designator R?, comment 22R-2W
插件电阻-碳膜; 生产商: 厚声 国巨; 规格型号: 22R±5%_2W_±100ppm_AXIAL0.8; 货品编码: 312175; 备注: *; 供应商: *
footprint R-AXIAL0.8 (Footprint not found)
footprint R-AXIAL0.8V1 (Footprint not found)
pins: 1, 2

## R2-47K
designator R?, comment 47K-2W
插件电阻-碳膜; 生产商: 厚声 国巨; 规格型号: 47K±5%_2W_±100ppm_AXIAL0.8; 货品编码: 312082; 备注: *; 供应商: *
footprint R-AXIAL0.8 (Footprint not found)
footprint R-AXIAL0.8V1 (Footprint not found)
pins: 1, 2

## R2-47R
designator R?, comment 47R-2W
插件电阻-碳膜; 生产商: 厚声 国巨; 规格型号: 47R±5%_2W_±100ppm_AXIAL0.8; 货品编码: 312055; 备注: *; 供应商: *
footprint R-AXIAL0.8 (Footprint not found)
footprint R-AXIAL0.8V1 (Footprint not found)
pins: 1, 2

## R2-51K
designator R?, comment 51K-2W
插件电阻-碳膜; 生产商: 厚声 国巨; 规格型号: 51K±5%_2W_±100ppm_AXIAL0.8; 货品编码: 312091; 备注: *; 供应商: *
footprint R-AXIAL0.8 (Footprint not found)
footprint R-AXIAL0.8V1 (Footprint not found)
pins: 1, 2

## R2-68K
designator R?, comment 68K-2W
插件电阻-碳膜; 生产商: 厚声 国巨; 规格型号: 68K±5%_2W_±100ppm_AXIAL0.8; 货品编码: 无样品无编码; 备注: *; 供应商: *
footprint R-AXIAL0.8 (Footprint not found)
footprint R-AXIAL0.8V1 (Footprint not found)
pins: 1, 2

## R2-100K
designator R?, comment 100K-2W
插件电阻-碳膜; 生产商: 厚声 国巨; 规格型号: 100K±5%_2W_±100ppm_AXIAL0.8; 货品编码: 312060; 备注: *; 供应商: *
footprint R-AXIAL0.8 (Footprint not found)
footprint R-AXIAL0.8V1 (Footprint not found)
pins: 1, 2

## R2-100R
designator R?, comment 100R-2W
插件电阻-碳膜; 生产商: 厚声 国巨; 规格型号: 100R±5%_2W_±100ppm_AXIAL0.8; 货品编码: 312065; 备注: *; 供应商: *
footprint R-AXIAL0.8 (Footprint not found)
footprint R-AXIAL0.8V1 (Footprint not found)
pins: 1, 2

## R2-200R
designator R?, comment 200R-2W
插件电阻-碳膜; 生产商: 厚声 国巨; 规格型号: 200R±5%_2W_±100ppm_AXIAL0.8; 货品编码: 312133; 备注: *; 供应商: *
footprint R-AXIAL0.8 (Footprint not found)
footprint R-AXIAL0.8V1 (Footprint not found)
pins: 1, 2

## R2-470R
designator R?, comment 470R-2W
插件电阻-碳膜; 生产商: 厚声 国巨; 规格型号: 470R±5%_2W_±100ppm_AXIAL0.8; 货品编码: 312132; 备注: *; 供应商: *
footprint R-AXIAL0.8 (Footprint not found)
footprint R-AXIAL0.8V1 (Footprint not found)
pins: 1, 2

## R2JS-2.2KF
designator R?, comment 2.2KF-2W
插件电阻-金膜; 生产商: 厚声 国巨; 规格型号: 2.2K±1%_2W_±100ppm_AXIAL0.8; 货品编码: 312165; 备注: *; 供应商: *
footprint R-AXIAL0.8 (Footprint not found)
footprint R-AXIAL0.8V1 (Footprint not found)
pins: 1, 2

## R2JS-4.7KF
designator R?, comment 4.7KF-2W
插件电阻-金膜; 生产商: 厚声 国巨; 规格型号: 4.7K±1%_2W_±100ppm_AXIAL0.8; 货品编码: 312100; 备注: *; 供应商: *
footprint R-AXIAL0.8 (Footprint not found)
footprint R-AXIAL0.8V1 (Footprint not found)
pins: 1, 2

## R2JS-22KF
designator R?, comment 22KF-2W
插件电阻-金膜; 生产商: 厚声 国巨; 规格型号: 22K±1%_2W_±100ppm_AXIAL0.8; 货品编码: 312080; 备注: *; 供应商: *
footprint R-AXIAL0.8 (Footprint not found)
footprint R-AXIAL0.8V1 (Footprint not found)
pins: 1, 2

## R2JS-33KF
designator R?, comment 33KF-2W
插件电阻-金膜; 生产商: 厚声 国巨; 规格型号: 33K±1%_2W_±100ppm_AXIAL0.8; 货品编码: 312142; 备注: *; 供应商: *
footprint R-AXIAL0.8 (Footprint not found)
footprint R-AXIAL0.8V1 (Footprint not found)
pins: 1, 2

## R2JS-47KF
designator R?, comment 47KF-2W
插件电阻-金膜; 生产商: 厚声 国巨; 规格型号: 47K±1%_2W_±100ppm_AXIAL0.8; 货品编码: 312081; 备注: *; 供应商: *
footprint R-AXIAL0.8 (Footprint not found)
footprint R-AXIAL0.8V1 (Footprint not found)
pins: 1, 2

## R2JS-68KF
designator R?, comment 68KF-2W
插件电阻-金膜; 生产商: 厚声 国巨; 规格型号: 68K±1%_2W_±100ppm_AXIAL0.8; 货品编码: 312059; 备注: *; 供应商: *
footprint R-AXIAL0.8 (Footprint not found)
footprint R-AXIAL0.8V1 (Footprint not found)
pins: 1, 2

## R2JS-100R
designator R?, comment 100R-2W
插件电阻-金膜; 生产商: 厚声 国巨; 规格型号: 100R±5%_2W_±100ppm_AXIAL0.8; 货品编码: 312065; 备注: *; 供应商: *
footprint R-AXIAL0.8 (Footprint not found)
footprint R-AXIAL0.8V1 (Footprint not found)
pins: 1, 2

## R3-10R
designator R?, comment 10R-3W
插件电阻-碳膜; 生产商: 厚声 国巨; 规格型号: 10R±5%_3W_±100ppm_AXIAL0.9; 货品编码: 312092; 备注: *; 供应商: *
footprint R-AXIAL0.9
footprint R-AXIAL0.9V1
pins: 1, 2

## R3-51K
designator R?, comment 51K-3W
插件电阻-碳膜; 生产商: 厚声 国巨; 规格型号: 51K±5%_3W_±100ppm_AXIAL0.9; 货品编码: 312067; 备注: *; 供应商: *
footprint R-AXIAL0.9
footprint R-AXIAL0.9V1
pins: 1, 2

## R3-68K
designator R?, comment 68K-3W
插件电阻-碳膜; 生产商: 厚声 国巨; 规格型号: 68K±5%_3W_±100ppm_AXIAL0.8; 货品编码: 312183; 备注: *; 供应商: *
footprint R-AXIAL0.8 (Footprint not found)
footprint R-AXIAL0.8V1 (Footprint not found)
pins: 1, 2

## R3-100R
designator R?, comment 100R-3W
插件电阻-碳膜; 生产商: 厚声 国巨; 规格型号: 100R±5%_3W_±100ppm_AXIAL0.9; 货品编码: 312085; 备注: *; 供应商: *
footprint R-AXIAL0.9
footprint R-AXIAL0.9V1
pins: 1, 2

## R3-120R
designator R?, comment 120R-3W
插件电阻-碳膜; 生产商: 厚声 国巨; 规格型号: 120R±5%_3W_±100ppm_AXIAL0.9; 货品编码: 312066; 备注: *; 供应商: *
footprint R-AXIAL0.9
footprint R-AXIAL0.9V1
pins: 1, 2

## R3JM-0.005RF
designator R?, comment 0.005RF-3W
插件电阻-精密; 生产商: 厚声 国巨; 规格型号: 0.005RF±1%_3W_±200ppm_R-CY0R005-3W; 货品编码: 312140; 备注: *; 供应商: *
footprint R-CY0R005-3W (Footprint not found)
pins: 1, 2

## R3JS-2.4KF
designator R?, comment 2.4KF-3W
插件电阻-金膜; 生产商: 厚声 国巨; 规格型号: 2.4K±1%_3W_±100ppm_AXIAL0.9; 货品编码: 312086; 备注: *; 供应商: *
footprint R-AXIAL0.9
footprint R-AXIAL0.9V1
pins: 1, 2

## R3JS-120RF
designator R?, comment 120F-3W
插件电阻-金膜; 生产商: 厚声 国巨; 规格型号: 120R±1%_3W_±100ppm_AXIAL0.9; 货品编码: 无样品无编码; 备注: *; 供应商: *
footprint R-AXIAL0.9
footprint R-AXIAL0.9V1
pins: 1, 2

## R5-47R
designator R?, comment 47R-5W
插件电阻-碳膜; 生产商: 厚声 国巨; 规格型号: 47R±5%_5W_±100ppm_AXIAL0.9; 货品编码: 312068; 备注: *; 供应商: *
footprint R-AXIAL1.2
footprint R-AXIAL1.2V1 (Footprint not found)
pins: 1, 2

## R5-51K
designator R?, comment 51K-5W
插件电阻-碳膜; 生产商: 厚声 国巨; 规格型号: 51K±5%_5W_±100ppm_AXIAL0.9; 货品编码: 312099; 备注: *; 供应商: *
footprint R-AXIAL1.2
footprint R-AXIAL1.2V1 (Footprint not found)
pins: 1, 2

## R5-100K
designator R?, comment 100K-5W
插件电阻-碳膜; 生产商: 厚声 国巨; 规格型号: 100K±5%_5W_±100ppm_AXIAL0.9; 货品编码: 312061; 备注: *; 供应商: *
footprint R-AXIAL1.2
footprint R-AXIAL1.2V1 (Footprint not found)
pins: 1, 2

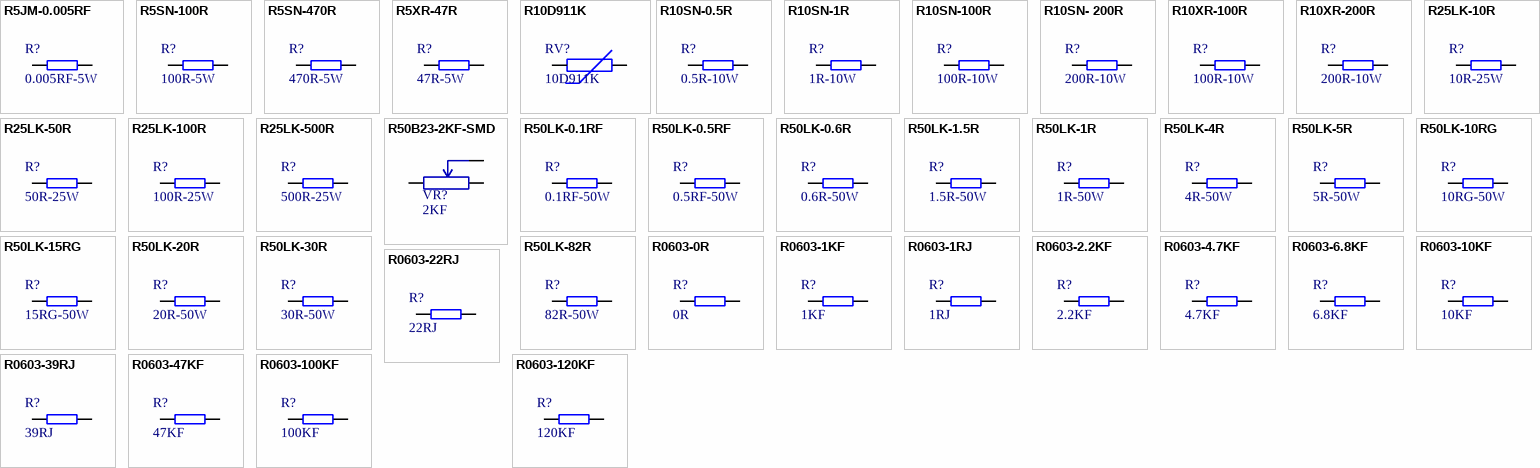
[diagram p4: symbols R5JM-0.005RF to R0603-120KF]

## R5JM-0.005RF
designator R?, comment 0.005RF-5W
插件电阻-精密; 生产商: 厚声 国巨; 规格型号: 0.005RF±1%_5W_±200ppm_R-CY0R005-5W; 货品编码: 无样品无编码; 备注: *; 供应商: *
footprint R-CY0R005-5W (Footprint not found)
pins: 1, 2

## R5SN-100R
designator R?, comment 100R-5W
插件电阻-水泥; 生产商: 厚声 国巨; 规格型号: 100R±5%_5W_±200ppm_SQP5W; 货品编码: 无样品无编码; 备注: *; 供应商: *
footprint R-SQP5W
pins: 1, 2

## R5SN-470R
designator R?, comment 470R-5W
插件电阻-水泥; 生产商: 厚声 国巨; 规格型号: 470R±5%_5W_±200ppm_SQP5W; 货品编码: 312071; 备注: *; 供应商: *
footprint R-SQP5W
pins: 1, 2

## R5XR-47R
designator R?, comment 47R-5W
插件电阻-线绕; 生产商: 厚声 国巨; 规格型号: 47R±5%_5W_±100ppm_AXIAL1.2; 货品编码: 312096; 备注: *; 供应商: *
footprint R-AXIAL1.2 (Footprint not found)
pins: 1, 2

## R10D911K
designator RV?, comment 10D911K
footprint R-10D911K (Footprint not found)
pins: 1, 2

## R10SN-0.5R
designator R?, comment 0.5R-10W
插件电阻-水泥; 生产商: 厚声 国巨; 规格型号: 0.5R±5%_10W_±200ppm_SQP10W; 货品编码: 312073; 备注: *; 供应商: *
footprint R-SQP10W
pins: 1, 2

## R10SN-1R
designator R?, comment 1R-10W
插件电阻-水泥; 生产商: 厚声 国巨; 规格型号: 1R±5%_10W_±200ppm_SQP10W; 货品编码: 312072; 备注: *; 供应商: *
footprint R-SQP10W
pins: 1, 2

## R10SN-100R
designator R?, comment 100R-10W
插件电阻-水泥; 生产商: 厚声 国巨; 规格型号: 100R±5%_10W_±200ppm_SQP10W; 货品编码: 312069; 备注: *; 供应商: *
footprint R-SQP10W
pins: 1, 2

## R10SN- 200R
designator R?, comment 200R-10W
插件电阻-水泥; 生产商: 厚声 国巨; 规格型号: 200R±5%_10W_±200ppm_SQP10W; 货品编码: 312074; 备注: *; 供应商: *
footprint R-SQP10W
pins: 1, 2

## R10XR-100R
designator R?, comment 100R-10W
插件电阻-线绕; 生产商: 厚声 国巨; 规格型号: 100±5%_10W_±100ppm_AXIAL1.5; 货品编码: 312093; 备注: *; 供应商: *
footprint R-AXIAL1.5 (Footprint not found)
pins: 1, 2

## R10XR-200R
designator R?, comment 200R-10W
插件电阻-线绕; 生产商: 厚声 国巨; 规格型号: 200±5%_10W_±100ppm_AXIAL1.5; 货品编码: 312070; 备注: *; 供应商: *
footprint R-AXIAL1.5 (Footprint not found)
pins: 1, 2

## R25LK-10R
designator R?, comment 10R-25W
插件电阻-铝壳; 生产商: 厚声 国巨; 规格型号: 10R±5%_25W_±200ppm_LK25W; 货品编码: 312120; 备注: *; 供应商: *
footprint R-LK25W
pins: 1, 2

## R25LK-50R
designator R?, comment 50R-25W
插件电阻-铝壳; 生产商: 厚声 国巨; 规格型号: 50R±5%_25W_±200ppm_LK25W; 货品编码: 无样品无编码; 备注: *; 供应商: *
footprint R-LK25W
pins: 1, 2

## R25LK-100R
designator R?, comment 100R-25W
插件电阻-铝壳; 生产商: 厚声 国巨; 规格型号: 100R±5%_25W_±200ppm_LK25W; 货品编码: 312141; 备注: *; 供应商: *
footprint R-LK25W
pins: 1, 2

## R25LK-500R
designator R?, comment 500R-25W
插件电阻-铝壳; 生产商: 厚声 国巨; 规格型号: 500R±5%_25W_±200ppm_LK25W; 货品编码: 218005; 备注: *; 供应商: *
footprint R-LK25W
pins: 1, 2

## R50B23-2KF-SMD
designator VR?, comment 2KF
贴片可调电位器; 备注: 贴片2K可调电阻; 货品编码: 311078; 规格型号: 2K±1%_VM3ESX50B23; 生产商: 风华 厚声
footprint VR50B23-SMD
pins: 1, 2, 3

## R50LK-0.1RF
designator R?, comment 0.1RF-50W
插件电阻-铝壳; 生产商: 厚声 国巨; 规格型号: 0.1R±1%_50W_±200ppm_LK50W; 货品编码: 312136; 备注: *; 供应商: *
footprint R-LK50W
pins: 1, 2

## R50LK-0.5RF
designator R?, comment 0.5RF-50W
插件电阻-铝壳; 生产商: 厚声 国巨; 规格型号: 0.5R±1%_50W_±200ppm_LK50W; 货品编码: 312159; 备注: *; 供应商: *
footprint R-LK50W
pins: 1, 2

## R50LK-0.6R
designator R?, comment 0.6R-50W
插件电阻-铝壳; 生产商: 厚声 国巨; 规格型号: 0.6R±3%_50W_±200ppm_LK50W; 货品编码: 312178; 备注: *; 供应商: *
footprint R-LK50W
pins: 1, 2

## R50LK-1.5R
designator R?, comment 1.5R-50W
插件电阻-铝壳; 生产商: 厚声 国巨; 规格型号: 1.5R±3%_50W_±200ppm_LK50W; 货品编码: 312179; 备注: *; 供应商: *
footprint R-LK50W
pins: 1, 2

## R50LK-1R
designator R?, comment 1R-50W
插件电阻-铝壳; 生产商: 厚声 国巨; 规格型号: 1R±5%_50W_±200ppm_LK50W; 货品编码: 312168; 备注: *; 供应商: *
footprint R-LK50W
pins: 1, 2

## R50LK-4R
designator R?, comment 4R-50W
插件电阻-铝壳; 生产商: 厚声 国巨; 规格型号: 4R±3%_50W_±200ppm_LK50W; 货品编码: 312177; 备注: *; 供应商: *
footprint R-LK50W
pins: 1, 2

## R50LK-5R
designator R?, comment 5R-50W
插件电阻-铝壳; 生产商: 厚声 国巨; 规格型号: 5R±5%_50W_±200ppm_LK50W; 货品编码: 312169; 备注: *; 供应商: *
footprint R-LK50W
pins: 1, 2

## R50LK-10RG
designator R?, comment 10RG-50W
插件电阻-铝壳; 生产商: 厚声 国巨; 规格型号: 10R±2%_50W_±200ppm_LK50W; 货品编码: 312134; 备注: *; 供应商: *
footprint R-LK50W
pins: 1, 2

## R50LK-15RG
designator R?, comment 15RG-50W
插件电阻-铝壳; 生产商: 厚声 国巨; 规格型号: 15R±2%_50W_±200ppm_LK50W; 货品编码: 312135; 备注: *; 供应商: *
footprint R-LK50W
pins: 1, 2

## R50LK-20R
designator R?, comment 20R-50W
插件电阻-铝壳; 生产商: 厚声 国巨; 规格型号: 20R±5%_50W_±200ppm_LK50W; 货品编码: 312166; 备注: *; 供应商: *
footprint R-LK50W
pins: 1, 2

## R50LK-30R
designator R?, comment 30R-50W
插件电阻-铝壳; 生产商: 厚声 国巨; 规格型号: 30R±5%_50W_±200ppm_LK50W; 货品编码: 312167; 备注: *; 供应商: *
footprint R-LK50W
pins: 1, 2

## R50LK-82R
designator R?, comment 82R-50W
插件电阻-铝壳; 生产商: 厚声 国巨; 规格型号: 82R±3%_50W_±200ppm_LK50W; 货品编码: 312137; 备注: *; 供应商: *
footprint R-LK50W
pins: 1, 2

## R0603-0R
designator R?, comment 0R
贴片电阻-通用; 生产商: 厚声 国巨; 规格型号: 0R_1/10W_±200ppm_R0603; 货品编码: 无样品无编码; 备注: *; 供应商: *
footprint R0603
pins: 1, 2

## R0603-1KF
designator R?, comment 1KF
贴片电阻-通用; 生产商: 厚声 国巨; 规格型号: 1K±1%_1/10W_±200ppm_R0603; 货品编码: 无样品无编码; 备注: *; 供应商: *
footprint R0603
pins: 1, 2

## R0603-1RJ
designator R?, comment 1RJ
贴片电阻-通用; 生产商: 厚声 国巨; 规格型号: 1R±5%_1/10W_±200ppm_R0603; 货品编码: 无样品无编码; 备注: *; 供应商: *
footprint R0603
pins: 1, 2

## R0603-2.2KF
designator R?, comment 2.2KF
贴片电阻-通用; 生产商: 厚声 国巨; 规格型号: 2.2K±1%_1/10W_±200ppm_R0603; 货品编码: 无样品无编码; 备注: *; 供应商: *
footprint R0603
pins: 1, 2

## R0603-4.7KF
designator R?, comment 4.7KF
贴片电阻-通用; 生产商: 厚声 国巨; 规格型号: 4.7K±1%_1/10W_±200ppm_R0603; 货品编码: 无样品无编码; 备注: *; 供应商: *
footprint R0603
pins: 1, 2

## R0603-6.8KF
designator R?, comment 6.8KF
贴片电阻-通用; 生产商: 厚声 国巨; 规格型号: 6.8K±1%_1/10W_±200ppm_R0603; 货品编码: 无样品无编码; 备注: *; 供应商: *
footprint R0603
pins: 1, 2

## R0603-10KF
designator R?, comment 10KF
贴片电阻-通用; 生产商: 厚声 国巨; 规格型号: 10K±1%_1/10W_±200ppm_R0603; 货品编码: 311182; 备注: *; 供应商: *
footprint R0603
pins: 1, 2

## R0603-22RJ
designator R?, comment 22RJ
贴片电阻-通用; 生产商: 厚声 国巨; 规格型号: 22R±5%_1/10W_±200ppm_R0603; 货品编码: 无样品无编码; 备注: *; 供应商: *
footprint R0603
pins: 1, 2

## R0603-39RJ
designator R?, comment 39RJ
贴片电阻-通用; 生产商: 厚声 国巨; 规格型号: 22R±5%_1/10W_±200ppm_R0603; 货品编码: 无样品无编码; 备注: *; 供应商: *
footprint R0603
pins: 1, 2

## R0603-47KF
designator R?, comment 47KF
贴片电阻-通用; 生产商: 厚声 国巨; 规格型号: 47K±1%_1/10W_±200ppm_R0603; 货品编码: 无样品无编码; 备注: *; 供应商: *
footprint R0603
pins: 1, 2

## R0603-100KF
designator R?, comment 100KF
贴片电阻-通用; 生产商: 厚声 国巨; 规格型号: 100K±1%_1/10W_±200ppm_R0603; 货品编码: 无样品无编码; 备注: *; 供应商: *
footprint R0603
pins: 1, 2

## R0603-120KF
designator R?, comment 120KF
贴片电阻-通用; 生产商: 厚声 国巨; 规格型号: 120K±1%_1/10W_±200ppm_R0603; 货品编码: 无样品无编码; 备注: *; 供应商: *
footprint R0603
pins: 1, 2

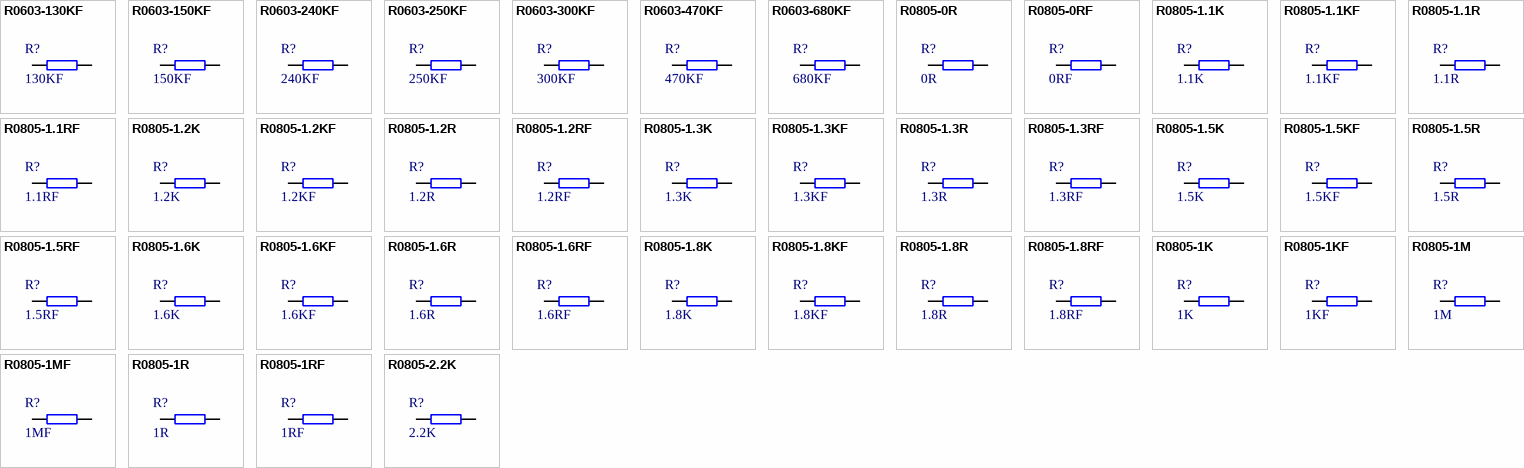
[diagram p5: symbols R0603-130KF to R0805-2.2K]

## R0603-130KF
designator R?, comment 130KF
贴片电阻-通用; 生产商: 厚声 国巨; 规格型号: 130K±1%_1/10W_±200ppm_R0603; 货品编码: 无样品无编码; 备注: *; 供应商: *
footprint R0603
pins: 1, 2

## R0603-150KF
designator R?, comment 150KF
贴片电阻-通用; 生产商: 厚声 国巨; 规格型号: 150K±1%_1/10W_±200ppm_R0603; 货品编码: 无样品无编码; 备注: *; 供应商: *
footprint R0603
pins: 1, 2

## R0603-240KF
designator R?, comment 240KF
贴片电阻-通用; 生产商: 厚声 国巨; 规格型号: 240K±1%_1/10W_±200ppm_R0603; 货品编码: 无样品无编码; 备注: *; 供应商: *
footprint R0603
pins: 1, 2

## R0603-250KF
designator R?, comment 250KF
贴片电阻-通用; 生产商: 厚声 国巨; 规格型号: 250K±1%_1/10W_±200ppm_R0603; 货品编码: 无样品无编码; 备注: *; 供应商: *
footprint R0603
pins: 1, 2

## R0603-300KF
designator R?, comment 300KF
贴片电阻-通用; 生产商: 厚声 国巨; 规格型号: 300K±1%_1/10W_±200ppm_R0603; 货品编码: 无样品无编码; 备注: *; 供应商: *
footprint R0603
pins: 1, 2

## R0603-470KF
designator R?, comment 470KF
贴片电阻-通用; 生产商: 厚声 国巨; 规格型号: 470K±1%_1/10W_±200ppm_R0603; 货品编码: 311210; 备注: *; 供应商: *
footprint R0603
pins: 1, 2

## R0603-680KF
designator R?, comment 680KF
贴片电阻-通用; 生产商: 厚声 国巨; 规格型号: 680K±1%_1/10W_±200ppm_R0603; 货品编码: 无样品无编码; 备注: *; 供应商: *
footprint R0603
pins: 1, 2

## R0805-0R
designator R?, comment 0R
贴片电阻-通用; 生产商: 厚声 国巨; 规格型号: 0R±5%_1/8W_±200ppm_R0805; 货品编码: 311003; 备注: *; 供应商: *
footprint R0805 (Footprint not found)
pins: 1, 2

## R0805-0RF
designator R?, comment 0RF
贴片电阻-通用; 生产商: 厚声 国巨; 规格型号: 0R±1%_1/8W_±200ppm_R0805; 货品编码: 311126; 备注: *; 供应商: *
footprint R0805 (Footprint not found)
pins: 1, 2

## R0805-1.1K
designator R?, comment 1.1K
贴片电阻-通用; 生产商: 厚声 国巨; 规格型号: 1.1K±5%_1/8W_±100ppm_R0805; 货品编码: 无样品无编码; 备注: *; 供应商: *
footprint R0805 (Footprint not found)
pins: 1, 2

## R0805-1.1KF
designator R?, comment 1.1KF
贴片电阻-通用; 生产商: 厚声 国巨; 规格型号: 1.1K±1%_1/8W_±100ppm_R0805; 货品编码: 无样品无编码; 备注: *; 供应商: *
footprint R0805 (Footprint not found)
pins: 1, 2

## R0805-1.1R
designator R?, comment 1.1R
贴片电阻-通用; 生产商: 厚声 国巨; 规格型号: 1.1R±5%_1/8W_±200ppm_R0805; 货品编码: 无样品无编码; 备注: *; 供应商: *
footprint R0805 (Footprint not found)
pins: 1, 2

## R0805-1.1RF
designator R?, comment 1.1RF
贴片电阻-通用; 生产商: 厚声 国巨; 规格型号: 1.1R±1%_1/8W_±200ppm_R0805; 货品编码: 无样品无编码; 备注: *; 供应商: *
footprint R0805 (Footprint not found)
pins: 1, 2

## R0805-1.2K
designator R?, comment 1.2K
贴片电阻-通用; 生产商: 厚声 国巨; 规格型号: 1.2K±5%_1/8W_±100ppm_R0805; 货品编码: 无样品无编码; 备注: *; 供应商: *
footprint R0805 (Footprint not found)
pins: 1, 2

## R0805-1.2KF
designator R?, comment 1.2KF
贴片电阻-通用; 生产商: 厚声 国巨; 规格型号: 1.2K±1%_1/8W_±100ppm_R0805; 货品编码: 311053; 备注: *; 供应商: *
footprint R0805 (Footprint not found)
pins: 1, 2

## R0805-1.2R
designator R?, comment 1.2R
贴片电阻-通用; 生产商: 厚声 国巨; 规格型号: 1.2R±5%_1/8W_±200ppm_R0805; 货品编码: 无样品无编码; 备注: *; 供应商: *
footprint R0805 (Footprint not found)
pins: 1, 2

## R0805-1.2RF
designator R?, comment 1.2RF
贴片电阻-通用; 生产商: 厚声 国巨; 规格型号: 1.2R±1%_1/8W_±200ppm_R0805; 货品编码: 无样品无编码; 备注: *; 供应商: *
footprint R0805 (Footprint not found)
pins: 1, 2

## R0805-1.3K
designator R?, comment 1.3K
贴片电阻-通用; 生产商: 厚声 国巨; 规格型号: 1.3K±5%_1/8W_±100ppm_R0805; 货品编码: 无样品无编码; 备注: *; 供应商: *
footprint R0805 (Footprint not found)
pins: 1, 2

## R0805-1.3KF
designator R?, comment 1.3KF
贴片电阻-通用; 生产商: 厚声 国巨; 规格型号: 1.3K±1%_1/8W_±100ppm_R0805; 货品编码: 无样品无编码; 备注: *; 供应商: *
footprint R0805 (Footprint not found)
pins: 1, 2

## R0805-1.3R
designator R?, comment 1.3R
贴片电阻-通用; 生产商: 厚声 国巨; 规格型号: 1.3R±5%_1/8W_±200ppm_R0805; 货品编码: 无样品无编码; 备注: *; 供应商: *
footprint R0805 (Footprint not found)
pins: 1, 2

## R0805-1.3RF
designator R?, comment 1.3RF
贴片电阻-通用; 生产商: 厚声 国巨; 规格型号: 1.3R±1%_1/8W_±200ppm_R0805; 货品编码: 无样品无编码; 备注: *; 供应商: *
footprint R0805 (Footprint not found)
pins: 1, 2

## R0805-1.5K
designator R?, comment 1.5K
贴片电阻-通用; 生产商: 厚声 国巨; 规格型号: 1.5K±5%_1/8W_±100ppm_R0805; 货品编码: 311023; 备注: *; 供应商: *
footprint R0805 (Footprint not found)
pins: 1, 2

## R0805-1.5KF
designator R?, comment 1.5KF
贴片电阻-通用; 生产商: 厚声 国巨; 规格型号: 1.5K±1%_1/8W_±100ppm_R0805; 货品编码: 311024; 备注: *; 供应商: *
footprint R0805 (Footprint not found)
pins: 1, 2

## R0805-1.5R
designator R?, comment 1.5R
贴片电阻-通用; 生产商: 厚声 国巨; 规格型号: 1.5R±5%_1/8W_±200ppm_R0805; 货品编码: 无样品无编码; 备注: *; 供应商: *
footprint R0805 (Footprint not found)
pins: 1, 2

## R0805-1.5RF
designator R?, comment 1.5RF
贴片电阻-通用; 生产商: 厚声 国巨; 规格型号: 1.5R±1%_1/8W_±200ppm_R0805; 货品编码: 无样品无编码; 备注: *; 供应商: *
footprint R0805 (Footprint not found)
pins: 1, 2

## R0805-1.6K
designator R?, comment 1.6K
贴片电阻-通用; 生产商: 厚声 国巨; 规格型号: 1.6K±5%_1/8W_±100ppm_R0805; 货品编码: 无样品无编码; 备注: *; 供应商: *
footprint R0805 (Footprint not found)
pins: 1, 2

## R0805-1.6KF
designator R?, comment 1.6KF
贴片电阻-通用; 生产商: 厚声 国巨; 规格型号: 1.6K±1%_1/8W_±100ppm_R0805; 货品编码: 无样品无编码; 备注: *; 供应商: *
footprint R0805 (Footprint not found)
pins: 1, 2

## R0805-1.6R
designator R?, comment 1.6R
贴片电阻-通用; 生产商: 厚声 国巨; 规格型号: 1.6R±5%_1/8W_±200ppm_R0805; 货品编码: 无样品无编码; 备注: *; 供应商: *
footprint R0805 (Footprint not found)
pins: 1, 2

## R0805-1.6RF
designator R?, comment 1.6RF
贴片电阻-通用; 生产商: 厚声 国巨; 规格型号: 1.6R±1%_1/8W_±200ppm_R0805; 货品编码: 无样品无编码; 备注: *; 供应商: *
footprint R0805 (Footprint not found)
pins: 1, 2

## R0805-1.8K
designator R?, comment 1.8K
贴片电阻-通用; 生产商: 厚声 国巨; 规格型号: 1.8K±5%_1/8W_±100ppm_R0805; 货品编码: 无样品无编码; 备注: *; 供应商: *
footprint R0805 (Footprint not found)
pins: 1, 2

## R0805-1.8KF
designator R?, comment 1.8KF
贴片电阻-通用; 生产商: 厚声 国巨; 规格型号: 1.8K±1%_1/8W_±100ppm_R0805; 货品编码: 无样品无编码; 备注: *; 供应商: *
footprint R0805 (Footprint not found)
pins: 1, 2

## R0805-1.8R
designator R?, comment 1.8R
贴片电阻-通用; 生产商: 厚声 国巨; 规格型号: 1.8R±5%_1/8W_±200ppm_R0805; 货品编码: 无样品无编码; 备注: *; 供应商: *
footprint R0805 (Footprint not found)
pins: 1, 2

## R0805-1.8RF
designator R?, comment 1.8RF
贴片电阻-通用; 生产商: 厚声 国巨; 规格型号: 1.8R±1%_1/8W_±200ppm_R0805; 货品编码: 无样品无编码; 备注: *; 供应商: *
footprint R0805 (Footprint not found)
pins: 1, 2

## R0805-1K
designator R?, comment 1K
贴片电阻-通用; 生产商: 厚声 国巨; 规格型号: 1K±5%_1/8W_±100ppm_R0805; 货品编码: 311021; 备注: *; 供应商: *
footprint R0805 (Footprint not found)
pins: 1, 2

## R0805-1KF
designator R?, comment 1KF
贴片电阻-通用; 生产商: 厚声 国巨; 规格型号: 1K±1%_1/8W_±100ppm_R0805; 货品编码: 311022; 备注: *; 供应商: *
footprint R0805 (Footprint not found)
pins: 1, 2

## R0805-1M
designator R?, comment 1M
贴片电阻-通用; 生产商: 厚声 国巨; 规格型号: 1M±5%_1/8W_±100ppm_R0805; 货品编码: 无样品无编码; 备注: *; 供应商: *
footprint R0805 (Footprint not found)
pins: 1, 2

## R0805-1MF
designator R?, comment 1MF
贴片电阻-通用; 生产商: 厚声 国巨; 规格型号: 1M±1%_1/8W_±100ppm_R0805; 货品编码: 311059; 备注: *; 供应商: *
footprint R0805 (Footprint not found)
pins: 1, 2

## R0805-1R
designator R?, comment 1R
贴片电阻-通用; 生产商: 厚声 国巨; 规格型号: 1R±5%_1/8W_±200ppm_R0805; 货品编码: 31101; 备注: *; 供应商: *
footprint R0805 (Footprint not found)
pins: 1, 2

## R0805-1RF
designator R?, comment 1RF
贴片电阻-通用; 生产商: 厚声 国巨; 规格型号: 1R±1%_1/8W_±200ppm_R0805; 货品编码: 311127; 备注: *; 供应商: *
footprint R0805 (Footprint not found)
pins: 1, 2

## R0805-2.2K
designator R?, comment 2.2K
贴片电阻-通用; 生产商: 厚声 国巨; 规格型号: 2.2K±5%_1/8W_±100ppm_R0805; 货品编码: 311141; 备注: *; 供应商: *
footprint R0805 (Footprint not found)
pins: 1, 2

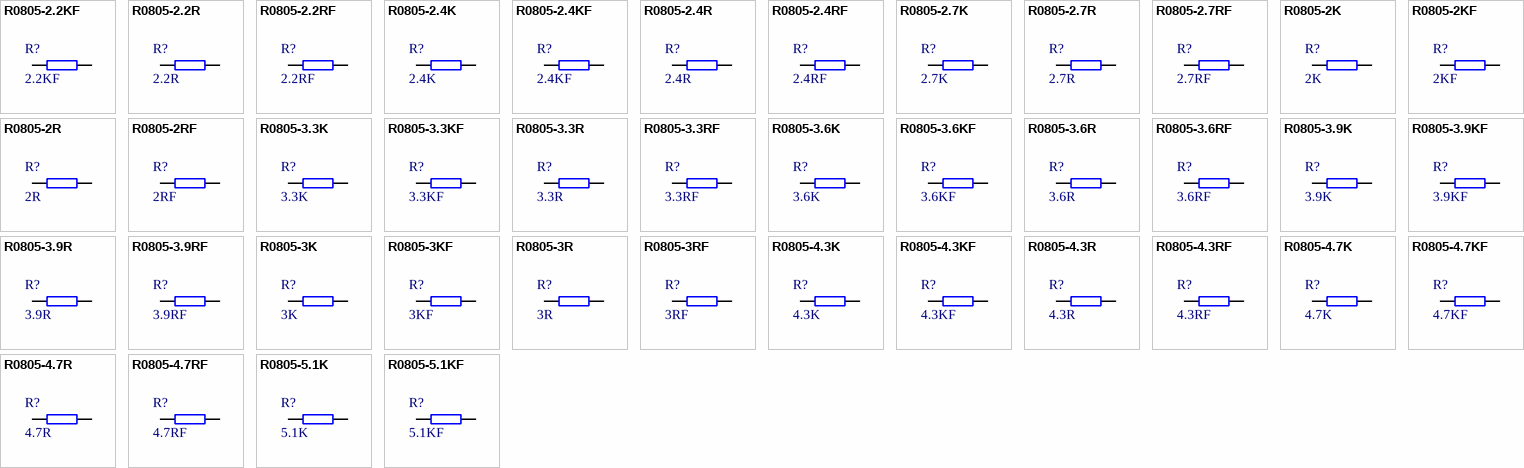
[diagram p6: symbols R0805-2.2KF to R0805-5.1KF]

## R0805-2.2KF
designator R?, comment 2.2KF
贴片电阻-通用; 生产商: 厚声 国巨; 规格型号: 2.2K±1%_1/8W_±100ppm_R0805; 货品编码: 311027; 备注: *; 供应商: *
footprint R0805 (Footprint not found)
pins: 1, 2

## R0805-2.2R
designator R?, comment 2.2R
贴片电阻-通用; 生产商: 厚声 国巨; 规格型号: 2.2R±5%_1/8W_±200ppm_R0805; 货品编码: 311002; 备注: *; 供应商: *
footprint R0805 (Footprint not found)
pins: 1, 2

## R0805-2.2RF
designator R?, comment 2.2RF
贴片电阻-通用; 生产商: 厚声 国巨; 规格型号: 2.2R±1%_1/8W_±200ppm_R0805; 货品编码: 无样品无编码; 备注: *; 供应商: *
footprint R0805 (Footprint not found)
pins: 1, 2

## R0805-2.4K
designator R?, comment 2.4K
贴片电阻-通用; 生产商: 厚声 国巨; 规格型号: 2.4K±5%_1/8W_±100ppm_R0805; 货品编码: 无样品无编码; 备注: *; 供应商: *
footprint R0805 (Footprint not found)
pins: 1, 2

## R0805-2.4KF
designator R?, comment 2.4KF
贴片电阻-通用; 生产商: 厚声 国巨; 规格型号: 2.4K±1%_1/8W_±100ppm_R0805; 货品编码: 无样品无编码; 备注: *; 供应商: *
footprint R0805 (Footprint not found)
pins: 1, 2